# EAGLE library part FM5324 (library dword1511-pmic-dcdc)
3-in-1 USB Power Bank PMIC with 2.4A Synchronous Boost and 2.0A Buck Charger
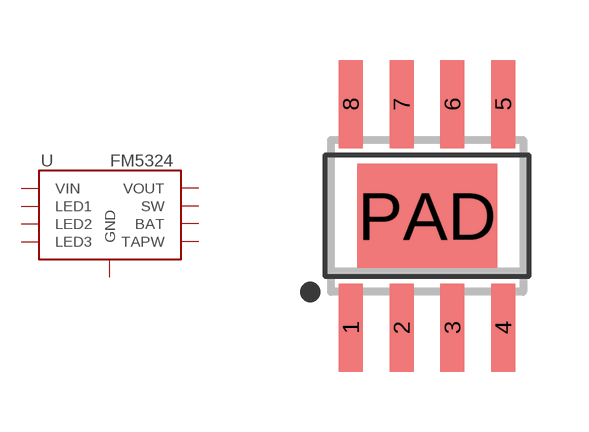
[diagram p34: symbol with the pads of SOIC-8P; footprint SOIC-8P]

Designator prefix U

## FM5324D, FM5324F, FM5324G  [SOIC-8P]
1  VIN  pwr
2  LED1
3  LED2
4  LED3
5  TAPW
6  BAT  in
7  SW  out
8  VOUT  pwr
PAD  GND  pwr

## Footprint SOIC-8P (pad centres in mm)
smd 0.6 x 2.2: 1 -1.905,-2.794; 2 -0.635,-2.794; 3 0.635,-2.794; 4 1.905,-2.794; 5 1.905,2.794; 6 0.635,2.794; 7 -0.635,2.794; 8 -1.905,2.794
smd 3.5 x 2.6: PAD 0,0